# Altium footprint library HC32F005.PcbLib: 1 footprints
Each footprint in its own frame and in the unit in brackets; x right, y up, seen from the top. Pads: shape width x height; smd on the part's side, far side on the other; paste and mask are expansions set on the pad; w line width, h text height; cw(c..) or ccw(c..) is an arc to the next point about the centre after c.
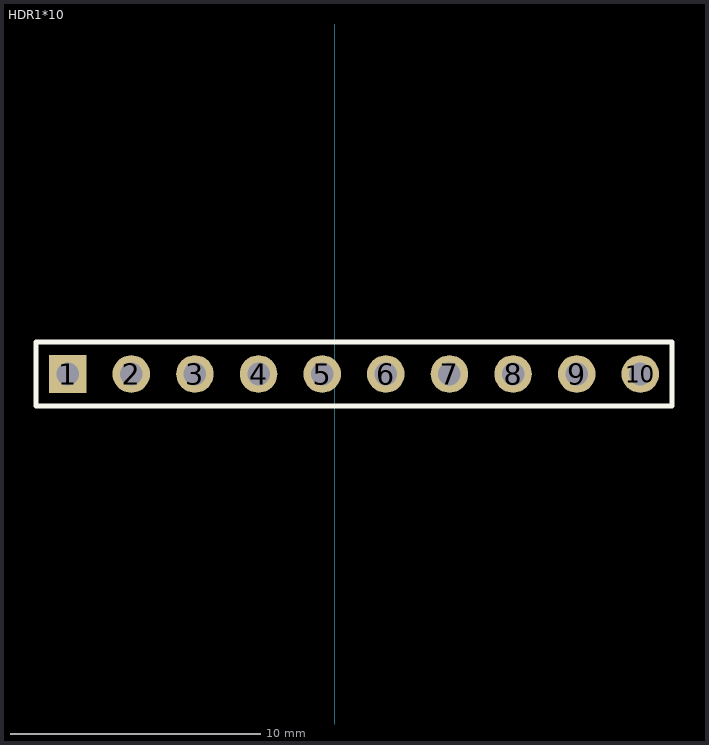
[diagram p0: the footprint, top view; thin cyan lines are the x and y axes]

## HDR1*10 [mm]
pads (10):
  rect 1.5x1.5 hole 0.9: 1(-10.668,-27.686)
  round 1.5 hole 0.9: 2(-8.128,-27.686) 3(-5.588,-27.686) 4(-3.048,-27.686) 5(-0.508,-27.686) 6(2.032,-27.686) 7(4.572,-27.686) 8(7.112,-27.686) 9(9.652,-27.686) 10(12.192,-27.686)
Top Overlay:
  lines w0.2: -11.938,-28.956 -10.033,-28.956 13.462,-28.956 13.462,-26.416 -11.938,-26.416 -11.938,-28.956